# EAGLE library part L3G4200D (library st)
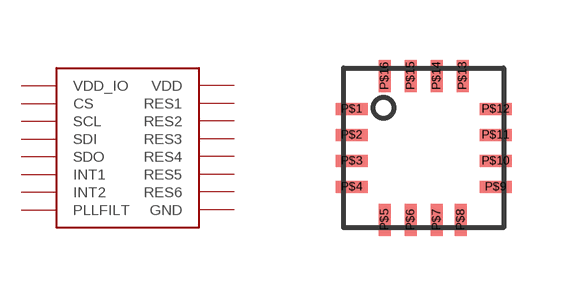
[diagram p4: symbol with the pads of LGA16; footprint LGA16]

Designator prefix -

## L3G4200D  [LGA16]
P$1  VDD_IO  pwr
P$2  SCL
P$3  SDI
P$4  SDO
P$5  CS
P$6  INT2
P$7  INT1
P$8  RES1
P$9  RES2
P$10  RES3
P$11  RES4
P$12  RES5
P$13  GND  pwr
P$14  PLLFILT
P$15  RES6
P$16  VDD  pwr

## Footprint LGA16 (pad centres in mm)
smd 0.8 x 0.3: P$1 -1.8,0.975; P$2 -1.8,0.325; P$3 -1.8,-0.325; P$4 -1.8,-0.975; P$9 1.8,-0.975; P$10 1.8,-0.325; P$11 1.8,0.325; P$12 1.8,0.975
smd 0.3 x 0.8: P$5 -0.975,-1.8; P$6 -0.325,-1.8; P$7 0.325,-1.8; P$8 0.927,-1.8; P$13 0.975,1.8; P$14 0.325,1.8; P$15 -0.325,1.8; P$16 -0.975,1.8